# Altium footprint library S08B-PASK-2.PcbLib: 1 footprints
Each footprint in its own frame and in the unit in brackets; x right, y up, seen from the top. Pads: shape width x height; smd on the part's side, far side on the other; paste and mask are expansions set on the pad; w line width, h text height; cw(c..) or ccw(c..) is an arc to the next point about the centre after c.
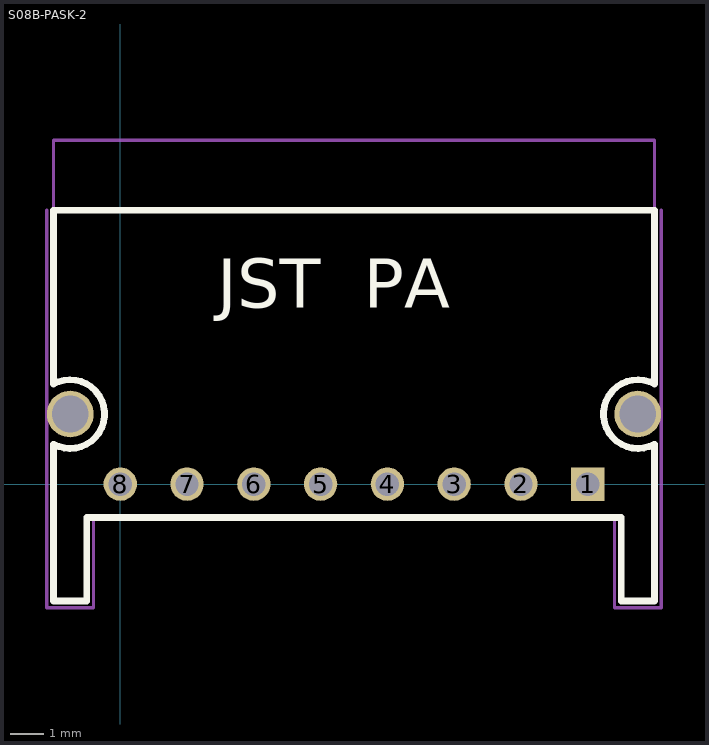
[diagram p0: the footprint, top view; thin cyan lines are the x and y axes]

## S08B-PASK-2 [mm] "JST (JAPAN SOLDERLESS TERMINALS) - S08B-PASK-2 - HEADER, PA, 8WAY, SIDE, 2MM"
height 7
pads (10):
  rect 1x1 hole 0.7: 1(14,0)
  round 1 hole 0.7: 2(12,0) 3(10,0) 4(8,0) 5(6,0) 6(4,0) 7(2,0) 8(0,0)
  round 1.4 hole 1.1: ""(-1.5,2.1) ""(15.5,2.1)
Top Overlay:
  lines w0.2: -2,-3.5 -2,1.2 ccw(c-1.5,2.1) -2,3 -2,8.2 8,8.2 16,8.2 16,3 ccw(c15.5,2.1) 16,1.2 16,-3.5 15,-3.5 15,-1 5.75,-1 -1,-1 -1,-3.5 -2,-3.5
  text "JST  PA" at 2.9,4.8 h2.5
Mechanical 15:
  lines w0.1: -2.2,8.2 -2.2,-3.7 -0.8,-3.7 -0.8,-1 14.8,-1 14.8,-3.7 16.2,-3.7 16.2,8.2 ; -2,8.2 -2,10.3 16,10.3 16,8.2
3D body: height 6.5, standoff -3.4, extent -2,-3.5 16,8.2